# Altium schematic symbol library SCH - MCU - STM32 - ST MICROELECTRONICS STM32L4S7ZITX LQFP144.SchLib: 1 symbol
Pins are listed as number, name and electrical type; pins without a type are passive.

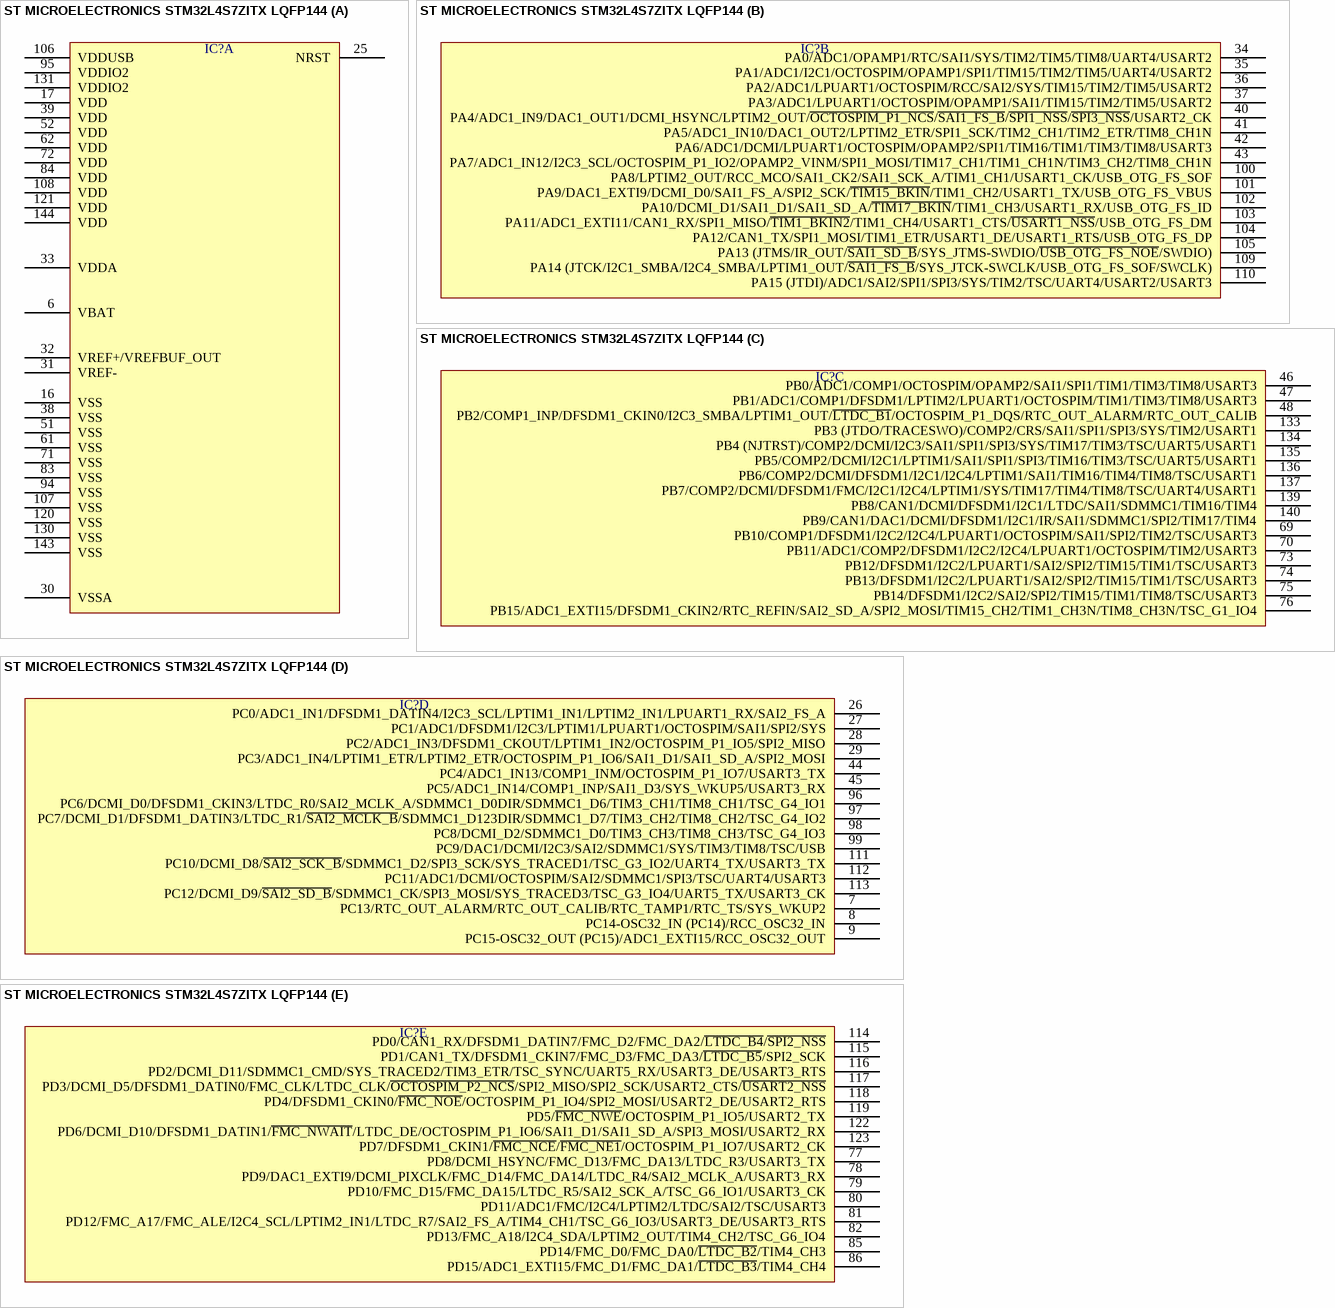
[diagram p0: symbol ST MICROELECTRONICS STM32L4S7ZITX LQFP144]

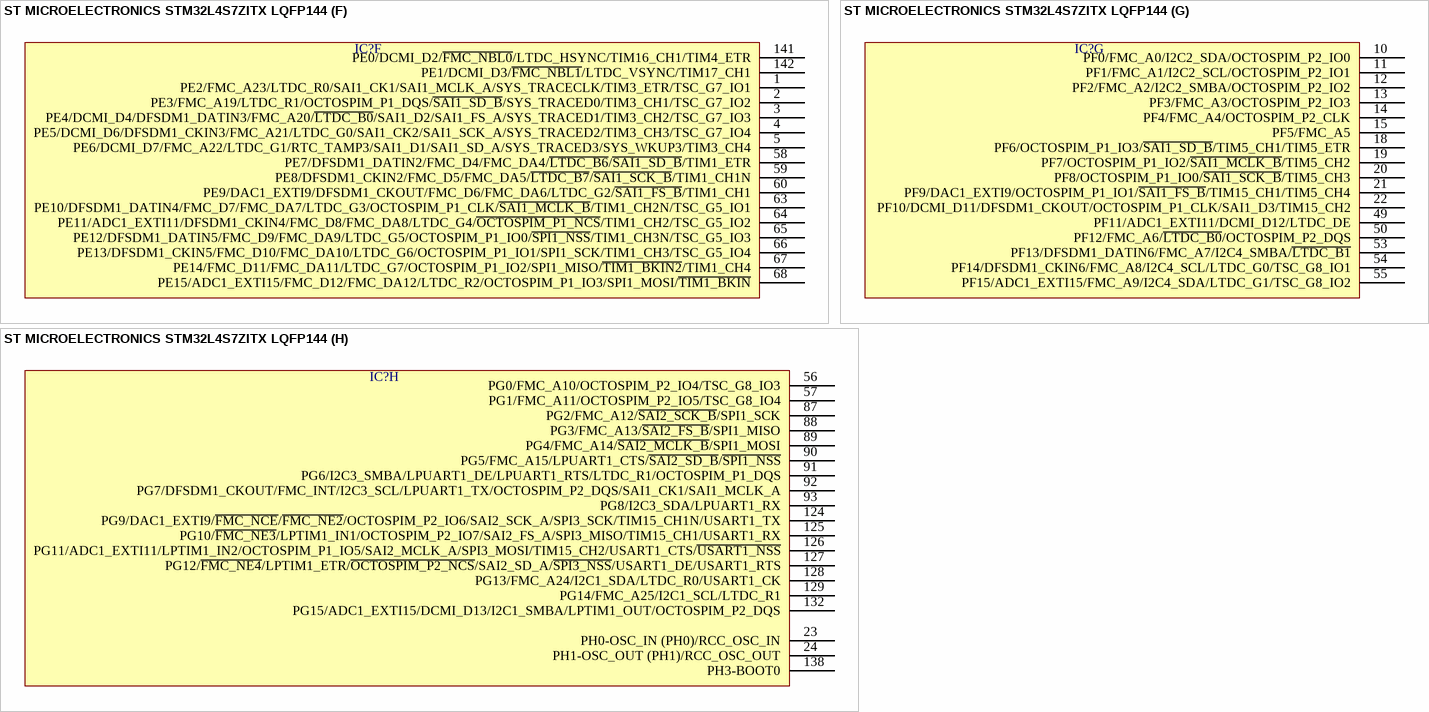
[diagram p1: symbol ST MICROELECTRONICS STM32L4S7ZITX LQFP144]

## ST MICROELECTRONICS STM32L4S7ZITX LQFP144
designator IC?  (value not drawn)
part A pins: 6 VBAT, 16 VSS, 17 VDD, 25 NRST, 30 VSSA, 31 VREF-, 32 VREF+/VREFBUF_OUT, 33 VDDA, 38 VSS, 39 VDD, 51 VSS, 52 VDD, 61 VSS, 62 VDD, 71 VSS, 72 VDD, 83 VSS, 84 VDD, 94 VSS, 95 VDDIO2, 106 VDDUSB, 107 VSS, 108 VDD, 120 VSS, 121 VDD, 130 VSS, 131 VDDIO2, 143 VSS, 144 VDD
part B pins: 34 PA0/ADC1/OPAMP1/RTC/SAI1/SYS/TIM2/TIM5/TIM8/UART4/USART2, 35 PA1/ADC1/I2C1/OCTOSPIM/OPAMP1/SPI1/TIM15/TIM2/TIM5/UART4/USART2, 36 PA2/ADC1/LPUART1/OCTOSPIM/RCC/SAI2/SYS/TIM15/TIM2/TIM5/USART2, 37 PA3/ADC1/LPUART1/OCTOSPIM/OPAMP1/SAI1/TIM15/TIM2/TIM5/USART2, 40 PA4/ADC1_IN9/DAC1_OUT1/DCMI_HSYNC/LPTIM2_OUT/~{OCTOSPIM_P1_NCS}/~{SAI1_FS_B}/~{SPI1_NSS}/~{SPI3_NSS}/USART2_CK, 41 PA5/ADC1_IN10/DAC1_OUT2/LPTIM2_ETR/SPI1_SCK/TIM2_CH1/TIM2_ETR/TIM8_CH1N, 42 PA6/ADC1/DCMI/LPUART1/OCTOSPIM/OPAMP2/SPI1/TIM16/TIM1/TIM3/TIM8/USART3, 43 PA7/ADC1_IN12/I2C3_SCL/OCTOSPIM_P1_IO2/OPAMP2_VINM/SPI1_MOSI/TIM17_CH1/TIM1_CH1N/TIM3_CH2/TIM8_CH1N, 100 PA8/LPTIM2_OUT/RCC_MCO/SAI1_CK2/SAI1_SCK_A/TIM1_CH1/USART1_CK/USB_OTG_FS_SOF, 101 PA9/DAC1_EXTI9/DCMI_D0/SAI1_FS_A/SPI2_SCK/~{TIM15_BKIN}/TIM1_CH2/USART1_TX/USB_OTG_FS_VBUS, 102 PA10/DCMI_D1/SAI1_D1/SAI1_SD_A/~{TIM17_BKIN}/TIM1_CH3/USART1_RX/USB_OTG_FS_ID, 103 PA11/ADC1_EXTI11/CAN1_RX/SPI1_MISO/~{TIM1_BKIN2}/TIM1_CH4/USART1_CTS/~{USART1_NSS}/USB_OTG_FS_DM, 104 PA12/CAN1_TX/SPI1_MOSI/TIM1_ETR/USART1_DE/USART1_RTS/USB_OTG_FS_DP, 105 PA13 (JTMS/IR_OUT/~{SAI1_SD_B}/SYS_JTMS-SWDIO/~{USB_OTG_FS_NOE}/SWDIO), 109 PA14 (JTCK/I2C1_SMBA/I2C4_SMBA/LPTIM1_OUT/~{SAI1_FS_B}/SYS_JTCK-SWCLK/USB_OTG_FS_SOF/SWCLK), 110 PA15 (JTDI)/ADC1/SAI2/SPI1/SPI3/SYS/TIM2/TSC/UART4/USART2/USART3
part C pins: 46 PB0/ADC1/COMP1/OCTOSPIM/OPAMP2/SAI1/SPI1/TIM1/TIM3/TIM8/USART3, 47 PB1/ADC1/COMP1/DFSDM1/LPTIM2/LPUART1/OCTOSPIM/TIM1/TIM3/TIM8/USART3, 48 PB2/COMP1_INP/DFSDM1_CKIN0/I2C3_SMBA/LPTIM1_OUT/~{LTDC_B1}/OCTOSPIM_P1_DQS/RTC_OUT_ALARM/RTC_OUT_CALIB, 69 PB10/COMP1/DFSDM1/I2C2/I2C4/LPUART1/OCTOSPIM/SAI1/SPI2/TIM2/TSC/USART3, 70 PB11/ADC1/COMP2/DFSDM1/I2C2/I2C4/LPUART1/OCTOSPIM/TIM2/USART3, 73 PB12/DFSDM1/I2C2/LPUART1/SAI2/SPI2/TIM15/TIM1/TSC/USART3, 74 PB13/DFSDM1/I2C2/LPUART1/SAI2/SPI2/TIM15/TIM1/TSC/USART3, 75 PB14/DFSDM1/I2C2/SAI2/SPI2/TIM15/TIM1/TIM8/TSC/USART3, 76 PB15/ADC1_EXTI15/DFSDM1_CKIN2/RTC_REFIN/SAI2_SD_A/SPI2_MOSI/TIM15_CH2/TIM1_CH3N/TIM8_CH3N/TSC_G1_IO4, 133 PB3 (JTDO/TRACESWO)/COMP2/CRS/SAI1/SPI1/SPI3/SYS/TIM2/USART1, 134 PB4 (NJTRST)/COMP2/DCMI/I2C3/SAI1/SPI1/SPI3/SYS/TIM17/TIM3/TSC/UART5/USART1, 135 PB5/COMP2/DCMI/I2C1/LPTIM1/SAI1/SPI1/SPI3/TIM16/TIM3/TSC/UART5/USART1, 136 PB6/COMP2/DCMI/DFSDM1/I2C1/I2C4/LPTIM1/SAI1/TIM16/TIM4/TIM8/TSC/USART1, 137 PB7/COMP2/DCMI/DFSDM1/FMC/I2C1/I2C4/LPTIM1/SYS/TIM17/TIM4/TIM8/TSC/UART4/USART1, 139 PB8/CAN1/DCMI/DFSDM1/I2C1/LTDC/SAI1/SDMMC1/TIM16/TIM4, 140 PB9/CAN1/DAC1/DCMI/DFSDM1/I2C1/IR/SAI1/SDMMC1/SPI2/TIM17/TIM4
part D pins: 7 PC13/RTC_OUT_ALARM/RTC_OUT_CALIB/RTC_TAMP1/RTC_TS/SYS_WKUP2, 8 PC14-OSC32_IN (PC14)/RCC_OSC32_IN, 9 PC15-OSC32_OUT (PC15)/ADC1_EXTI15/RCC_OSC32_OUT, 26 PC0/ADC1_IN1/DFSDM1_DATIN4/I2C3_SCL/LPTIM1_IN1/LPTIM2_IN1/LPUART1_RX/SAI2_FS_A, 27 PC1/ADC1/DFSDM1/I2C3/LPTIM1/LPUART1/OCTOSPIM/SAI1/SPI2/SYS, 28 PC2/ADC1_IN3/DFSDM1_CKOUT/LPTIM1_IN2/OCTOSPIM_P1_IO5/SPI2_MISO, 29 PC3/ADC1_IN4/LPTIM1_ETR/LPTIM2_ETR/OCTOSPIM_P1_IO6/SAI1_D1/SAI1_SD_A/SPI2_MOSI, 44 PC4/ADC1_IN13/COMP1_INM/OCTOSPIM_P1_IO7/USART3_TX, 45 PC5/ADC1_IN14/COMP1_INP/SAI1_D3/SYS_WKUP5/USART3_RX, 96 PC6/DCMI_D0/DFSDM1_CKIN3/LTDC_R0/SAI2_MCLK_A/SDMMC1_D0DIR/SDMMC1_D6/TIM3_CH1/TIM8_CH1/TSC_G4_IO1, 97 PC7/DCMI_D1/DFSDM1_DATIN3/LTDC_R1/~{SAI2_MCLK_B}/SDMMC1_D123DIR/SDMMC1_D7/TIM3_CH2/TIM8_CH2/TSC_G4_IO2, 98 PC8/DCMI_D2/SDMMC1_D0/TIM3_CH3/TIM8_CH3/TSC_G4_IO3, 99 PC9/DAC1/DCMI/I2C3/SAI2/SDMMC1/SYS/TIM3/TIM8/TSC/USB, 111 PC10/DCMI_D8/~{SAI2_SCK_B}/SDMMC1_D2/SPI3_SCK/SYS_TRACED1/TSC_G3_IO2/UART4_TX/USART3_TX, 112 PC11/ADC1/DCMI/OCTOSPIM/SAI2/SDMMC1/SPI3/TSC/UART4/USART3, 113 PC12/DCMI_D9/~{SAI2_SD_B}/SDMMC1_CK/SPI3_MOSI/SYS_TRACED3/TSC_G3_IO4/UART5_TX/USART3_CK
part E pins: 77 PD8/DCMI_HSYNC/FMC_D13/FMC_DA13/LTDC_R3/USART3_TX, 78 PD9/DAC1_EXTI9/DCMI_PIXCLK/FMC_D14/FMC_DA14/LTDC_R4/SAI2_MCLK_A/USART3_RX, 79 PD10/FMC_D15/FMC_DA15/LTDC_R5/SAI2_SCK_A/TSC_G6_IO1/USART3_CK, 80 PD11/ADC1/FMC/I2C4/LPTIM2/LTDC/SAI2/TSC/USART3, 81 PD12/FMC_A17/FMC_ALE/I2C4_SCL/LPTIM2_IN1/LTDC_R7/SAI2_FS_A/TIM4_CH1/TSC_G6_IO3/USART3_DE/USART3_RTS, 82 PD13/FMC_A18/I2C4_SDA/LPTIM2_OUT/TIM4_CH2/TSC_G6_IO4, 85 PD14/FMC_D0/FMC_DA0/~{LTDC_B2}/TIM4_CH3, 86 PD15/ADC1_EXTI15/FMC_D1/FMC_DA1/~{LTDC_B3}/TIM4_CH4, 114 PD0/CAN1_RX/DFSDM1_DATIN7/FMC_D2/FMC_DA2/~{LTDC_B4}/~{SPI2_NSS}, 115 PD1/CAN1_TX/DFSDM1_CKIN7/FMC_D3/FMC_DA3/~{LTDC_B5}/SPI2_SCK, 116 PD2/DCMI_D11/SDMMC1_CMD/SYS_TRACED2/TIM3_ETR/TSC_SYNC/UART5_RX/USART3_DE/USART3_RTS, 117 PD3/DCMI_D5/DFSDM1_DATIN0/FMC_CLK/LTDC_CLK/~{OCTOSPIM_P2_NCS}/SPI2_MISO/SPI2_SCK/USART2_CTS/~{USART2_NSS}, 118 PD4/DFSDM1_CKIN0/~{FMC_NOE}/OCTOSPIM_P1_IO4/SPI2_MOSI/USART2_DE/USART2_RTS, 119 PD5/~{FMC_NWE}/OCTOSPIM_P1_IO5/USART2_TX, 122 PD6/DCMI_D10/DFSDM1_DATIN1/~{FMC_NWAIT}/LTDC_DE/OCTOSPIM_P1_IO6/SAI1_D1/SAI1_SD_A/SPI3_MOSI/USART2_RX, 123 PD7/DFSDM1_CKIN1/~{FMC_NCE}/~{FMC_NE1}/OCTOSPIM_P1_IO7/USART2_CK
part F pins: 1 PE2/FMC_A23/LTDC_R0/SAI1_CK1/SAI1_MCLK_A/SYS_TRACECLK/TIM3_ETR/TSC_G7_IO1, 2 PE3/FMC_A19/LTDC_R1/OCTOSPIM_P1_DQS/~{SAI1_SD_B}/SYS_TRACED0/TIM3_CH1/TSC_G7_IO2, 3 PE4/DCMI_D4/DFSDM1_DATIN3/FMC_A20/~{LTDC_B0}/SAI1_D2/SAI1_FS_A/SYS_TRACED1/TIM3_CH2/TSC_G7_IO3, 4 PE5/DCMI_D6/DFSDM1_CKIN3/FMC_A21/LTDC_G0/SAI1_CK2/SAI1_SCK_A/SYS_TRACED2/TIM3_CH3/TSC_G7_IO4, 5 PE6/DCMI_D7/FMC_A22/LTDC_G1/RTC_TAMP3/SAI1_D1/SAI1_SD_A/SYS_TRACED3/SYS_WKUP3/TIM3_CH4, 58 PE7/DFSDM1_DATIN2/FMC_D4/FMC_DA4/~{LTDC_B6}/~{SAI1_SD_B}/TIM1_ETR, 59 PE8/DFSDM1_CKIN2/FMC_D5/FMC_DA5/~{LTDC_B7}/~{SAI1_SCK_B}/TIM1_CH1N, 60 PE9/DAC1_EXTI9/DFSDM1_CKOUT/FMC_D6/FMC_DA6/LTDC_G2/~{SAI1_FS_B}/TIM1_CH1, 63 PE10/DFSDM1_DATIN4/FMC_D7/FMC_DA7/LTDC_G3/OCTOSPIM_P1_CLK/~{SAI1_MCLK_B}/TIM1_CH2N/TSC_G5_IO1, 64 PE11/ADC1_EXTI11/DFSDM1_CKIN4/FMC_D8/FMC_DA8/LTDC_G4/~{OCTOSPIM_P1_NCS}/TIM1_CH2/TSC_G5_IO2, 65 PE12/DFSDM1_DATIN5/FMC_D9/FMC_DA9/LTDC_G5/OCTOSPIM_P1_IO0/~{SPI1_NSS}/TIM1_CH3N/TSC_G5_IO3, 66 PE13/DFSDM1_CKIN5/FMC_D10/FMC_DA10/LTDC_G6/OCTOSPIM_P1_IO1/SPI1_SCK/TIM1_CH3/TSC_G5_IO4, 67 PE14/FMC_D11/FMC_DA11/LTDC_G7/OCTOSPIM_P1_IO2/SPI1_MISO/~{TIM1_BKIN2}/TIM1_CH4, 68 PE15/ADC1_EXTI15/FMC_D12/FMC_DA12/LTDC_R2/OCTOSPIM_P1_IO3/SPI1_MOSI/~{TIM1_BKIN}, 141 PE0/DCMI_D2/~{FMC_NBL0}/LTDC_HSYNC/TIM16_CH1/TIM4_ETR, 142 PE1/DCMI_D3/~{FMC_NBL1}/LTDC_VSYNC/TIM17_CH1
part G pins: 10 PF0/FMC_A0/I2C2_SDA/OCTOSPIM_P2_IO0, 11 PF1/FMC_A1/I2C2_SCL/OCTOSPIM_P2_IO1, 12 PF2/FMC_A2/I2C2_SMBA/OCTOSPIM_P2_IO2, 13 PF3/FMC_A3/OCTOSPIM_P2_IO3, 14 PF4/FMC_A4/OCTOSPIM_P2_CLK, 15 PF5/FMC_A5, 18 PF6/OCTOSPIM_P1_IO3/~{SAI1_SD_B}/TIM5_CH1/TIM5_ETR, 19 PF7/OCTOSPIM_P1_IO2/~{SAI1_MCLK_B}/TIM5_CH2, 20 PF8/OCTOSPIM_P1_IO0/~{SAI1_SCK_B}/TIM5_CH3, 21 PF9/DAC1_EXTI9/OCTOSPIM_P1_IO1/~{SAI1_FS_B}/TIM15_CH1/TIM5_CH4, 22 PF10/DCMI_D11/DFSDM1_CKOUT/OCTOSPIM_P1_CLK/SAI1_D3/TIM15_CH2, 49 PF11/ADC1_EXTI11/DCMI_D12/LTDC_DE, 50 PF12/FMC_A6/~{LTDC_B0}/OCTOSPIM_P2_DQS, 53 PF13/DFSDM1_DATIN6/FMC_A7/I2C4_SMBA/~{LTDC_B1}, 54 PF14/DFSDM1_CKIN6/FMC_A8/I2C4_SCL/LTDC_G0/TSC_G8_IO1, 55 PF15/ADC1_EXTI15/FMC_A9/I2C4_SDA/LTDC_G1/TSC_G8_IO2
part H pins: 23 PH0-OSC_IN (PH0)/RCC_OSC_IN, 24 PH1-OSC_OUT (PH1)/RCC_OSC_OUT, 56 PG0/FMC_A10/OCTOSPIM_P2_IO4/TSC_G8_IO3, 57 PG1/FMC_A11/OCTOSPIM_P2_IO5/TSC_G8_IO4, 87 PG2/FMC_A12/~{SAI2_SCK_B}/SPI1_SCK, 88 PG3/FMC_A13/~{SAI2_FS_B}/SPI1_MISO, 89 PG4/FMC_A14/~{SAI2_MCLK_B}/SPI1_MOSI, 90 PG5/FMC_A15/LPUART1_CTS/~{SAI2_SD_B}/~{SPI1_NSS}, 91 PG6/I2C3_SMBA/LPUART1_DE/LPUART1_RTS/LTDC_R1/OCTOSPIM_P1_DQS, 92 PG7/DFSDM1_CKOUT/FMC_INT/I2C3_SCL/LPUART1_TX/OCTOSPIM_P2_DQS/SAI1_CK1/SAI1_MCLK_A, 93 PG8/I2C3_SDA/LPUART1_RX, 124 PG9/DAC1_EXTI9/~{FMC_NCE}/~{FMC_NE2}/OCTOSPIM_P2_IO6/SAI2_SCK_A/SPI3_SCK/TIM15_CH1N/USART1_TX, 125 PG10/~{FMC_NE3}/LPTIM1_IN1/OCTOSPIM_P2_IO7/SAI2_FS_A/SPI3_MISO/TIM15_CH1/USART1_RX, 126 PG11/ADC1_EXTI11/LPTIM1_IN2/OCTOSPIM_P1_IO5/SAI2_MCLK_A/SPI3_MOSI/TIM15_CH2/USART1_CTS/~{USART1_NSS}, 127 PG12/~{FMC_NE4}/LPTIM1_ETR/~{OCTOSPIM_P2_NCS}/SAI2_SD_A/~{SPI3_NSS}/USART1_DE/USART1_RTS, 128 PG13/FMC_A24/I2C1_SDA/LTDC_R0/USART1_CK, 129 PG14/FMC_A25/I2C1_SCL/LTDC_R1, 132 PG15/ADC1_EXTI15/DCMI_D13/I2C1_SMBA/LPTIM1_OUT/OCTOSPIM_P2_DQS, 138 PH3-BOOT0